# EAGLE library part 722-742/039-000 (library con-wago_7.5mm)
Serie 722, Federleiste mit Verriegelungsklinken / Series 722, Female connector with locking levers Polzahl / Pole No.: 12 Bemessungsspannung / Rated Voltage: 400 V Nennstrom / Nominal Current: 12 A Farbe / Color: xxxx / xxxx Stand: 01.01.2012. Die jeweils aktuellen Daten zu diesem Artikel finden Sie in unserem Produktkatalog, den Sie unter www.wago.com einsehen können. As of: 01/01/2012. Please find the newest data for this article in our product catalogue, which can be viewed under www.wago.com.
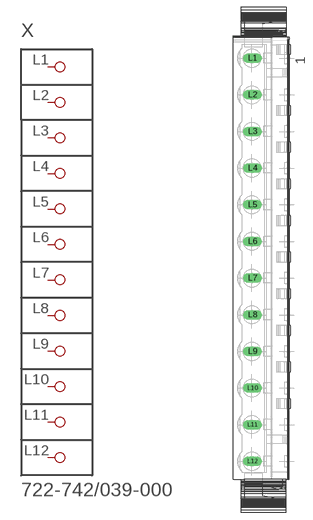
[diagram p39: symbol with the pads of P-722-742/039-000; footprint P-722-742/039-000]

Designator prefix X

## 722-742/039-000  [P-722-742/039-000]
L1  P1
L2  P2
L3  P3
L4  P4
L5  P5
L6  P6
L7  P7
L8  P8
L9  P9
L10  P10
L11  P11
L12  P12

## Footprint P-722-742/039-000 (pad centres in mm)
drill 1.3 long: L1 -2.271,41.25; L2 -2.271,33.75; L3 -2.271,26.25; L4 -2.271,18.75; L5 -2.271,11.25; L6 -2.271,3.75; L7 -2.271,-3.75; L8 -2.271,-11.25; L9 -2.271,-18.75; L10 -2.271,-26.25; L11 -2.271,-33.75; L12 -2.271,-41.25